# EAGLE library part SIM8055-6-1-14-00-A-REVA (library SIM8055-6-1-14-00-A-REVA)
Nano SIM Card Connector, Push-Pull Type, 6 Pin, SMT, Profile 1.35mm
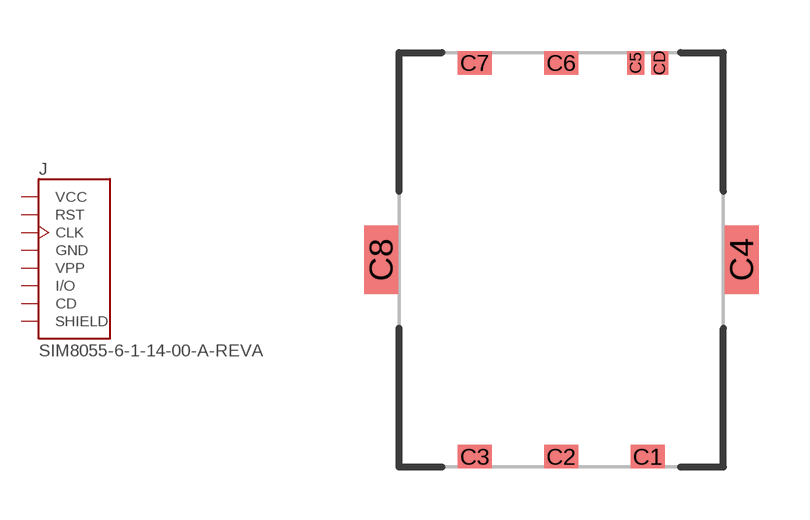
[diagram p0: symbol with the pads of GCT_SIM8055-6-1-14-00-A-REVA; footprint GCT_SIM8055-6-1-14-00-A-REVA]

Designator prefix J

## SIM8055-6-1-14-00-A-REVA (AVAILABILITY: Unavailable; MF: Global Connector Technology; MP: SIM8055-6-1-14-00-A; PACKAGE: Package Analog Devices; PRICE: None)  [GCT_SIM8055-6-1-14-00-A-REVA]
C1  VCC  pwr
C2  RST  in
C3  CLK  in
C4  SHIELD  pas
C5  GND  pwr
C6  VPP  pwr
C7  I/O
C8  SHIELD  pas
CD  CD  pas

## Footprint GCT_SIM8055-6-1-14-00-A-REVA (pad centres in mm)
smd 1 x 0.7: C1 2.54,-5.795; C2 0,-5.795; C3 -2.54,-5.795; C6 0,5.795; C7 -2.54,5.795
smd 1 x 2: C4 5.3,0; C8 -5.3,0
smd 0.5 x 0.7: C5 2.19,5.795; CD 2.89,5.795